# EAGLE library part I2C_EXPANDER (library r_cubed)
SX1505 - 8bit I2C Expander - http://www.digikey.com/product-detail/en/SX1505I087TRT/SX1505I087CT-ND/2272323
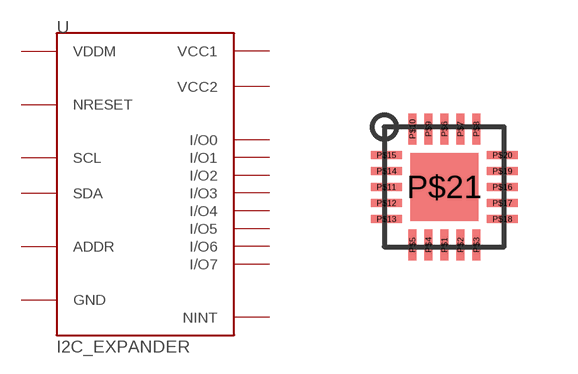
[diagram p1: symbol with the pads of QFN-UT-20; footprint QFN-UT-20]

Designator prefix -

## I2C_EXPANDER  [QFN-UT-20]
P$1  NRESET
P$2  SDA
P$4  SCL
P$5  I/O0
P$6  I/O1
P$7  VCC1
P$8  GND
P$9  I/O2
P$10  I/O3
P$11  NINT
P$12  ADDR
P$14  VDDM
P$15  I/O4
P$16  I/O5
P$17  VCC2
P$18  GND
P$19  I/O6
P$20  I/O7
P$21  GND

## Footprint QFN-UT-20 (pad centres in mm)
smd 0.203 x 0.787: P$1 0,-1.45; P$2 0.4,-1.45; P$3 0.8,-1.45; P$4 -0.4,-1.45; P$5 -0.8,-1.45; P$6 0,1.45; P$7 0.4,1.45; P$8 0.8,1.45; P$9 -0.4,1.45; P$10 -0.8,1.45
smd 0.787 x 0.203: P$11 -1.45,0; P$12 -1.45,-0.4; P$13 -1.45,-0.8; P$14 -1.45,0.4; P$15 -1.45,0.8; P$16 1.45,0; P$17 1.45,-0.4; P$18 1.45,-0.8; P$19 1.45,0.4; P$20 1.45,0.8
smd 1.7 x 1.7: P$21 0,0